# EAGLE library part THR-IO3 (library isb_doku)
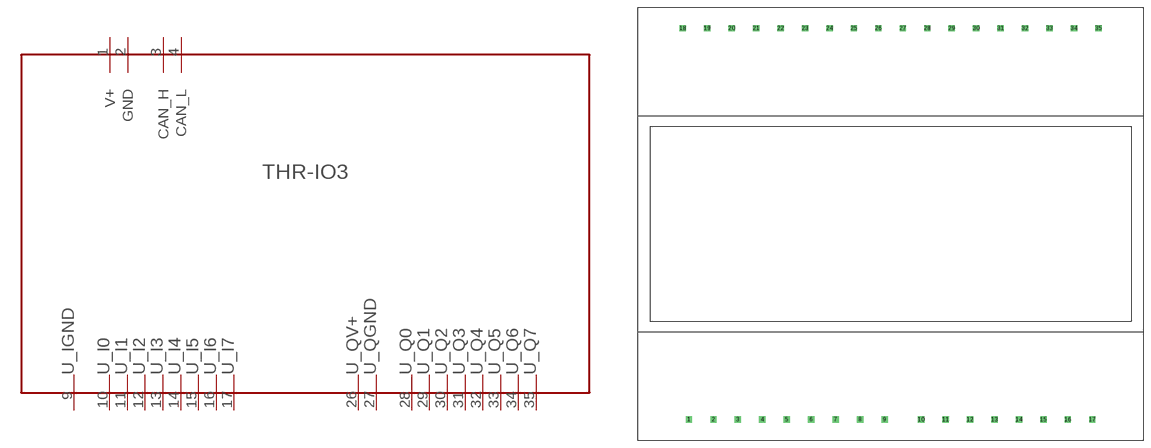
[diagram p2: symbol with the pads of THR_6TE; footprint THR_6TE]

Designator prefix -; gates CAN=THR-CAN _I0=THR-IN2 _I1=THR-IN2 _I2=THR-IN2 _I3=THR-IN2 _I4=THR-IN2 _I5=THR-IN2 _I6=THR-IN2 _I7=THR-IN2 _QGND=THR-PWR _QV+=THR-PWR _IGND=THR-PWR _Q0=THR-OUT2 _Q1=THR-OUT2 _Q2=THR-OUT2 _Q3=THR-OUT2 _Q4=THR-OUT2 _Q5=THR-OUT2 _Q6=THR-OUT2 _Q7=THR-OUT2

## THR-IO3  [THR_6TE]
1  CAN:V+  pwr
2  CAN:GND  pwr
3  CAN:CAN_H
4  CAN:CAN_L
9  _IGND:PWR  pwr
10  _I0:I*  in
11  _I1:I*  in
12  _I2:I*  in
13  _I3:I*  in
14  _I4:I*  in
15  _I5:I*  in
16  _I6:I*  in
17  _I7:I*  in
26  _QV+:PWR  pwr
27  _QGND:PWR  pwr
28  _Q0:Q*  out
29  _Q1:Q*  out
30  _Q2:Q*  out
31  _Q3:Q*  out
32  _Q4:Q*  out
33  _Q5:Q*  out
34  _Q6:Q*  out
35  _Q7:Q*  out

## Footprint THR_6TE (pad centres in mm)
drill 0.8 square: 1 -41.91,-40.64; 2 -36.83,-40.64; 3 -31.75,-40.64; 4 -26.67,-40.64; 5 -21.59,-40.64; 6 -16.51,-40.64; 7 -11.43,-40.64; 8 -6.35,-40.64; 9 -1.27,-40.64; 10 6.35,-40.64; 11 11.43,-40.64; 12 16.51,-40.64; 13 21.59,-40.64; 14 26.67,-40.64; 15 31.75,-40.64; 16 36.83,-40.64; 17 41.91,-40.64; 18 -43.18,40.64; 19 -38.1,40.64; 20 -33.02,40.64; 21 -27.94,40.64; 22 -22.86,40.64; 23 -17.78,40.64; 24 -12.7,40.64; 25 -7.62,40.64; 26 -2.54,40.64; 27 2.54,40.64; 28 7.62,40.64; 29 12.7,40.64; 30 17.78,40.64; 31 22.86,40.64; 32 27.94,40.64; 33 33.02,40.64; 34 38.1,40.64; 35 43.18,40.64